# Altium schematic symbol library LM3488MMX.Schlib: 1 symbol
Pins are listed as number, name and electrical type; pins without a type are passive.

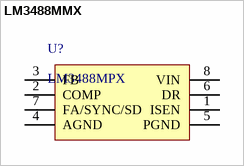
[diagram p0: symbol LM3488MMX]

## LM3488MMX
designator U?, comment LM3488MPX
Boost, Flyback, SEPIC Regulator Positive Output Step-Up, Step-Up/Step-Down  DC-DC Controller IC 8-VSSOP
pins: 1 ISEN, 2 COMP, 3 FB, 4 AGND, 5 PGND, 6 DR, 7 FA/SYNC/SD, 8 VIN